# EAGLE library part LM4733 (library Audio-Power-amlifier V.2.0)
3 Channel 30W Audio Power Amplifier with Mute
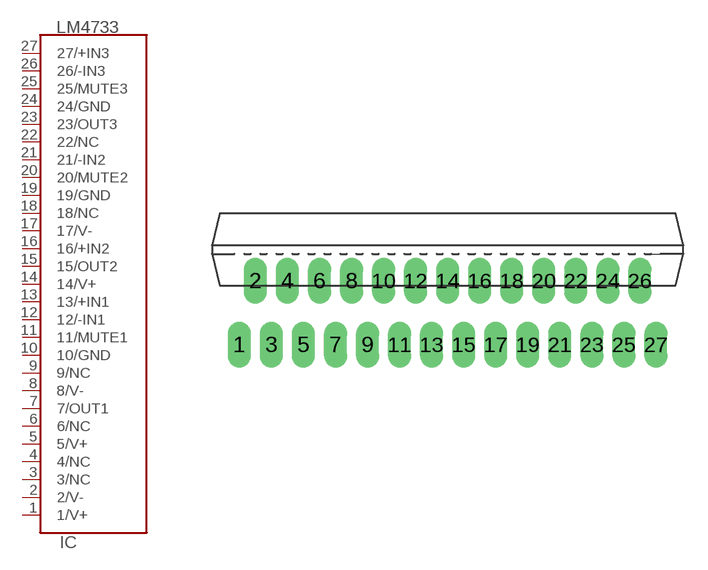
[diagram p248: symbol with the pads of TO-220-27TA; footprint TO-220-27TA]

Designator prefix IC

## LM4733  [TO-220-27TA]
1  1/V+  pwr
2  2/V-  pwr
3  3/NC  nc
4  4/NC  nc
5  5/V+  pwr
6  6/NC  nc
7  7/OUT1  out
8  8/V-  pwr
9  9/NC  nc
10  10/GND  pwr
11  11/MUTE1  in
12  12/-IN1  in
13  13/+IN1  in
14  14/V+  pwr
15  15/OUT2  out
16  16/+IN2  in
17  17/V-  out
18  18/NC  nc
19  19/GND  pwr
20  20/MUTE2  in
21  21/-IN2  in
22  22/NC  nc
23  23/OUT3  out
24  24/GND  pwr
25  25/MUTE3  in
26  26/-IN3  in
27  27/+IN3  in

## Footprint TO-220-27TA (pad centres in mm)
TO-220_MKT-TA27A , MOLDED (inch. 1,150x0,618x0,177 - body_0,040 pitch )
drill 0.5 pad 1.422 long: 1 -13.007,-3.988; 2 -12.009,0; 3 -11.008,-3.988; 4 -10.008,0; 5 -9.007,-3.988; 6 -8.006,0; 7 -7.005,-3.988; 8 -6.002,0; 9 -5.004,-3.988; 10 -4.003,0; 11 -3.002,-3.988; 12 -1.999,0; 13 -1.001,-3.99; 14 0,0; 15 1.001,-3.988; 16 2.002,0; 17 3.002,-3.988; 18 4.003,0; 19 5.004,-3.988; 20 6.007,0; 21 7.005,-3.988; 22 8.006,0; 23 9.009,-3.988; 24 10.008,0; 25 11.008,-3.988; 26 12.009,0; 27 13.01,-3.988